# Altium footprint library PcbLib3.PcbLib: 1 footprints
Each footprint in its own frame and in the unit in brackets; x right, y up, seen from the top. Pads: shape width x height; smd on the part's side, far side on the other; paste and mask are expansions set on the pad; w line width, h text height; cw(c..) or ccw(c..) is an arc to the next point about the centre after c.
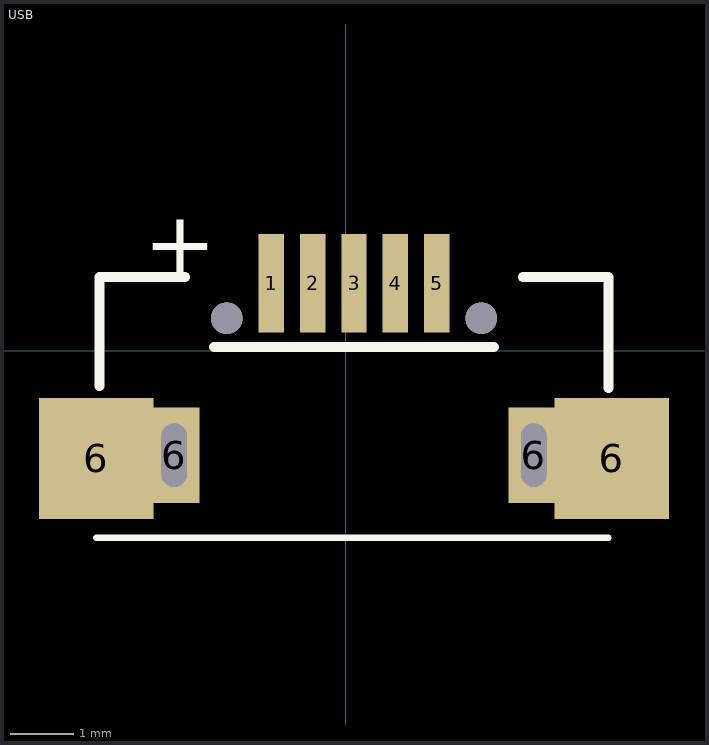
[diagram p0: the footprint, top view; thin cyan lines are the x and y axes]

## USB [mm]
pads (11):
  rect 0.4x1.55 smd: 1(-1.173,1.057) 2(-0.523,1.057) 3(0.127,1.057) 4(0.777,1.057) 5(1.427,1.057)
  rect 1.8x1.9 smd: 6(-3.923,-1.693) 6(4.177,-1.693)
  rect 0.8x1.5 hole 0.4 slot 1 at 90 deg: 6(-2.698,-1.643) 6(2.952,-1.643)
  round 0.5 hole 0.5 unplated: ""(-1.873,0.507) ""(2.127,0.507)
Top Overlay:
  lines w0.1: -3.923,-2.943 4.127,-2.943
  lines w0.152: -3.873,-0.559 -3.873,1.157 -2.523,1.157 ; -2.073,0.057 2.327,0.057 ; 2.777,1.157 4.127,1.157 4.127,-0.593
  text "+" at -3.173,1.207 h1
Keep-Out Layer:
  lines w0.127: -2.927,-2.186 -2.927,-1.068 -2.469,-1.068 -2.469,-2.186 -2.927,-2.186 ; 2.723,-2.186 2.723,-1.068 3.181,-1.068 3.181,-2.186 2.723,-2.186
Mechanical 1:
  lines w0.127: -2.927,-2.186 -2.469,-2.186 -2.469,-1.068 -2.927,-1.068 -2.927,-2.186 ; 2.723,-2.186 3.181,-2.186 3.181,-1.068 2.723,-1.068 2.723,-2.186